# Altium schematic symbol library AAAA_Library.SchLib: 148 symbols
Pins are listed as number, name and electrical type; pins without a type are passive.

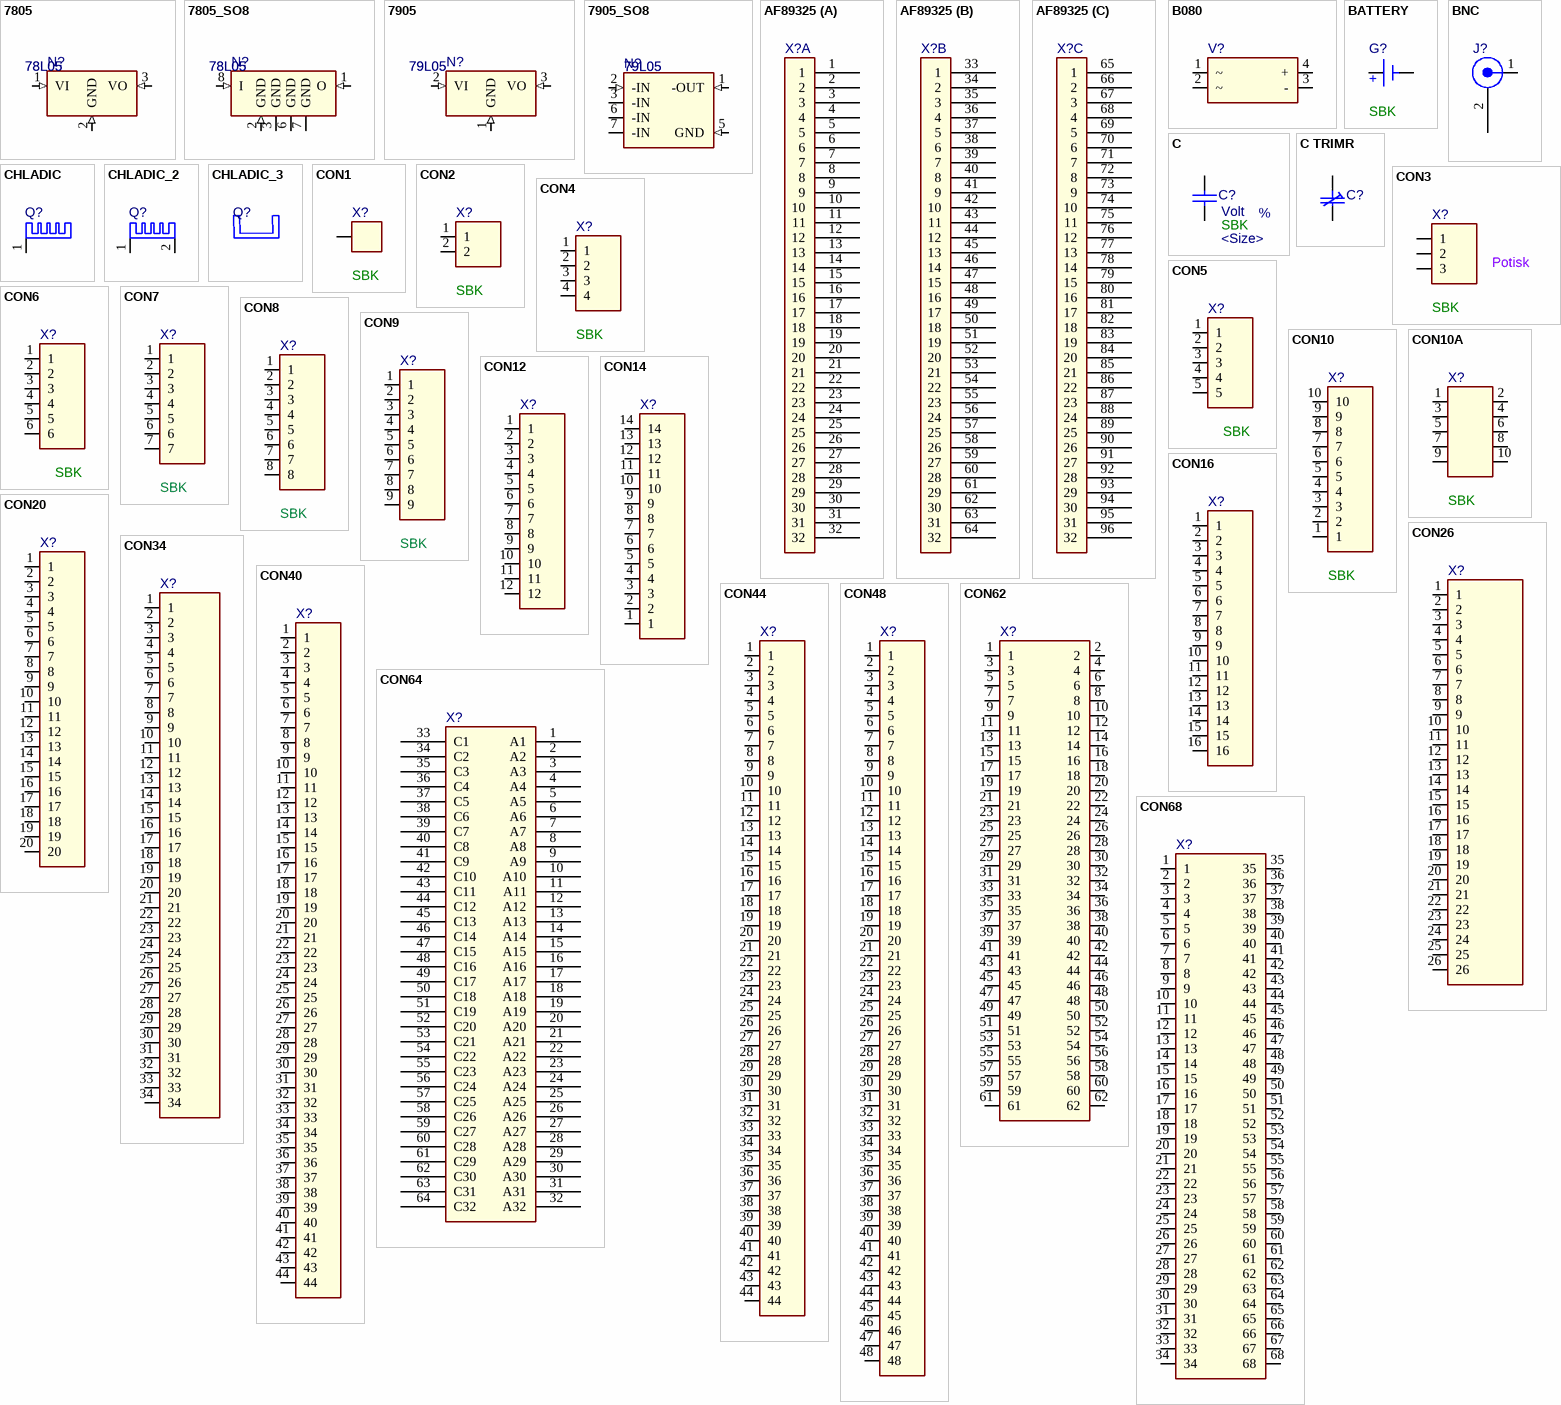
[diagram p0: symbols 7805 to CON68]

## 7805
designator N?, comment 78L05
Value: 78L05
footprint TO92A
pins: 1 VI (in), 2 GND (in), 3 VO (in)

## 7805_SO8
designator N?, comment 78L05
Value: 78L05
footprint ZSO8
pins: 1 O (in), 2 GND (in), 3 GND, 6 GND, 7 GND, 8 I (in)

## 7905
designator N?, comment 79L05
Value: 79L05
footprint TO92S
pins: 1 GND (in), 2 VI (in), 3 VO (in)

## 7905_SO8
designator N?, comment 79L05
Value: 79L05
footprint ZSO8
pins: 1 -OUT (in), 2 -IN (in), 3 -IN, 5 GND (in), 6 -IN, 7 -IN

## AF89325
designator X?
footprint AF89325
part A pins: 1, 2, 3, 4, 5, 6, 7, 8, 9, 10, 11, 12, 13, 14, 15, 16, 17, 18, 19, 20, 21, 22, 23, 24, 25, 26, 27, 28, 29, 30, 31, 32
part B pins: 33 1, 34 2, 35 3, 36 4, 37 5, 38 6, 39 7, 40 8, 41 9, 42 10, 43 11, 44 12, 45 13, 46 14, 47 15, 48 16, 49 17, 50 18, 51 19, 52 20, 53 21, 54 22, 55 23, 56 24, 57 25, 58 26, 59 27, 60 28, 61 29, 62 30, 63 31, 64 32
part C pins: 65 1, 66 2, 67 3, 68 4, 69 5, 70 6, 71 7, 72 8, 73 9, 74 10, 75 11, 76 12, 77 13, 78 14, 79 15, 80 16, 81 17, 82 18, 83 19, 84 20, 85 21, 86 22, 87 23, 88 24, 89 25, 90 26, 91 27, 92 28, 93 29, 94 30, 95 31, 96 32

## B080
designator V?
pins: 1 ~, 2 ~, 3 -, 4 +

## BATTERY
designator G?  MEGA_ID: SBK
pins: 1 MINUS, 2 PLUS
text: +

## BNC
designator J?
pins: 1 CENTER, 2 SHIELD

## C
designator C?  Size: <Size>  MEgA_ID: SBK  Tolerance: %  Voltage: Volt
footprint Z0805
pins: 1, 2

## C TRIMR
designator C?
pins: 1, 2

## CHLADIC
designator Q?
pins: 1

## CHLADIC_2
designator Q?
pins: 1, 2

## CHLADIC_3
designator Q?
MEGA_ID: *

## CON1
designator X?  MEGA_ID: SBK
Potisk
pins: 1

## CON2
designator X?  MEGA_ID: SBK
Potisk
pins: 1, 2

## CON3
designator X?  Desription: Potisk  MEGA_ID: SBK
pins: 1, 2, 3

## CON4
designator X?  MEGA_ID: SBK
Potisk
pins: 1, 2, 3, 4

## CON5
designator X?  MEGA_ID: SBK
Potisk
pins: 1, 2, 3, 4, 5

## CON6
designator X?  MEGA_ID: SBK
Potisk
pins: 1, 2, 3, 4, 5, 6

## CON7
designator X?  MEGA_ID: SBK
Potisk
pins: 1, 2, 3, 4, 5, 6, 7

## CON8
designator X?  MEGA_ID: SBK
Potisk
pins: 1, 2, 3, 4, 5, 6, 7, 8

## CON9
designator X?  MEGA_ID: SBK
Potisk
pins: 1, 2, 3, 4, 5, 6, 7, 8, 9

## CON10
designator X?  MEGA_ID: SBK
Potisk
pins: 1, 2, 3, 4, 5, 6, 7, 8, 9, 10

## CON10A
designator X?  MEGA_ID: SBK
Potisk
pins: 1, 2, 3, 4, 5, 6, 7, 8, 9, 10

## CON12
designator X?
pins: 1, 2, 3, 4, 5, 6, 7, 8, 9, 10, 11, 12

## CON14
designator X?
pins: 1, 2, 3, 4, 5, 6, 7, 8, 9, 10, 11, 12, 13, 14

## CON16
designator X?
pins: 1, 2, 3, 4, 5, 6, 7, 8, 9, 10, 11, 12, 13, 14, 15, 16

## CON20
designator X?
pins: 1, 2, 3, 4, 5, 6, 7, 8, 9, 10, 11, 12, 13, 14, 15, 16, 17, 18, 19, 20

## CON26
designator X?
pins: 1, 2, 3, 4, 5, 6, 7, 8, 9, 10, 11, 12, 13, 14, 15, 16, 17, 18, 19, 20, 21, 22, 23, 24, 25, 26

## CON34
designator X?
pins: 1, 2, 3, 4, 5, 6, 7, 8, 9, 10, 11, 12, 13, 14, 15, 16, 17, 18, 19, 20, 21, 22, 23, 24, 25, 26, 27, 28, 29, 30, 31, 32, 33, 34

## CON40
designator X?
pins: 1, 2, 3, 4, 5, 6, 7, 8, 9, 10, 11, 12, 13, 14, 15, 16, 17, 18, 19, 20, 21, 22, 23, 24, 25, 26, 27, 28, 29, 30, 31, 32, 33, 34, 35, 36, 37, 38, 39, 40, 41, 42, 43, 44

## CON44
designator X?
pins: 1, 2, 3, 4, 5, 6, 7, 8, 9, 10, 11, 12, 13, 14, 15, 16, 17, 18, 19, 20, 21, 22, 23, 24, 25, 26, 27, 28, 29, 30, 31, 32, 33, 34, 35, 36, 37, 38, 39, 40, 41, 42, 43, 44

## CON48
designator X?
pins: 1, 2, 3, 4, 5, 6, 7, 8, 9, 10, 11, 12, 13, 14, 15, 16, 17, 18, 19, 20, 21, 22, 23, 24, 25, 26, 27, 28, 29, 30, 31, 32, 33, 34, 35, 36, 37, 38, 39, 40, 41, 42, 43, 44, 45, 46, 47, 48

## CON62
designator X?
pins: 1, 2, 3, 4, 5, 6, 7, 8, 9, 10, 11, 12, 13, 14, 15, 16, 17, 18, 19, 20, 21, 22, 23, 24, 25, 26, 27, 28, 29, 30, 31, 32, 33, 34, 35, 36, 37, 38, 39, 40, 41, 42, 43, 44, 45, 46, 47, 48, 49, 50, 51, 52, 53, 54, 55, 56, 57, 58, 59, 60, 61, 62

## CON64
designator X?
footprint AF89325R
pins: 1 A1, 2 A2, 3 A3, 4 A4, 5 A5, 6 A6, 7 A7, 8 A8, 9 A9, 10 A10, 11 A11, 12 A12, 13 A13, 14 A14, 15 A15, 16 A16, 17 A17, 18 A18, 19 A19, 20 A20, 21 A21, 22 A22, 23 A23, 24 A24, 25 A25, 26 A26, 27 A27, 28 A28, 29 A29, 30 A30, 31 A31, 32 A32, 33 C1, 34 C2, 35 C3, 36 C4, 37 C5, 38 C6, 39 C7, 40 C8, 41 C9, 42 C10, 43 C11, 44 C12, 45 C13, 46 C14, 47 C15, 48 C16, 49 C17, 50 C18, 51 C19, 52 C20, 53 C21, 54 C22, 55 C23, 56 C24, 57 C25, 58 C26, 59 C27, 60 C28, 61 C29, 62 C30, 63 C31, 64 C32

## CON68
designator X?
pins: 1, 2, 3, 4, 5, 6, 7, 8, 9, 10, 11, 12, 13, 14, 15, 16, 17, 18, 19, 20, 21, 22, 23, 24, 25, 26, 27, 28, 29, 30, 31, 32, 33, 34, 35, 36, 37, 38, 39, 40, 41, 42, 43, 44, 45, 46, 47, 48, 49, 50, 51, 52, 53, 54, 55, 56, 57, 58, 59, 60, 61, 62, 63, 64, 65, 66, 67, 68

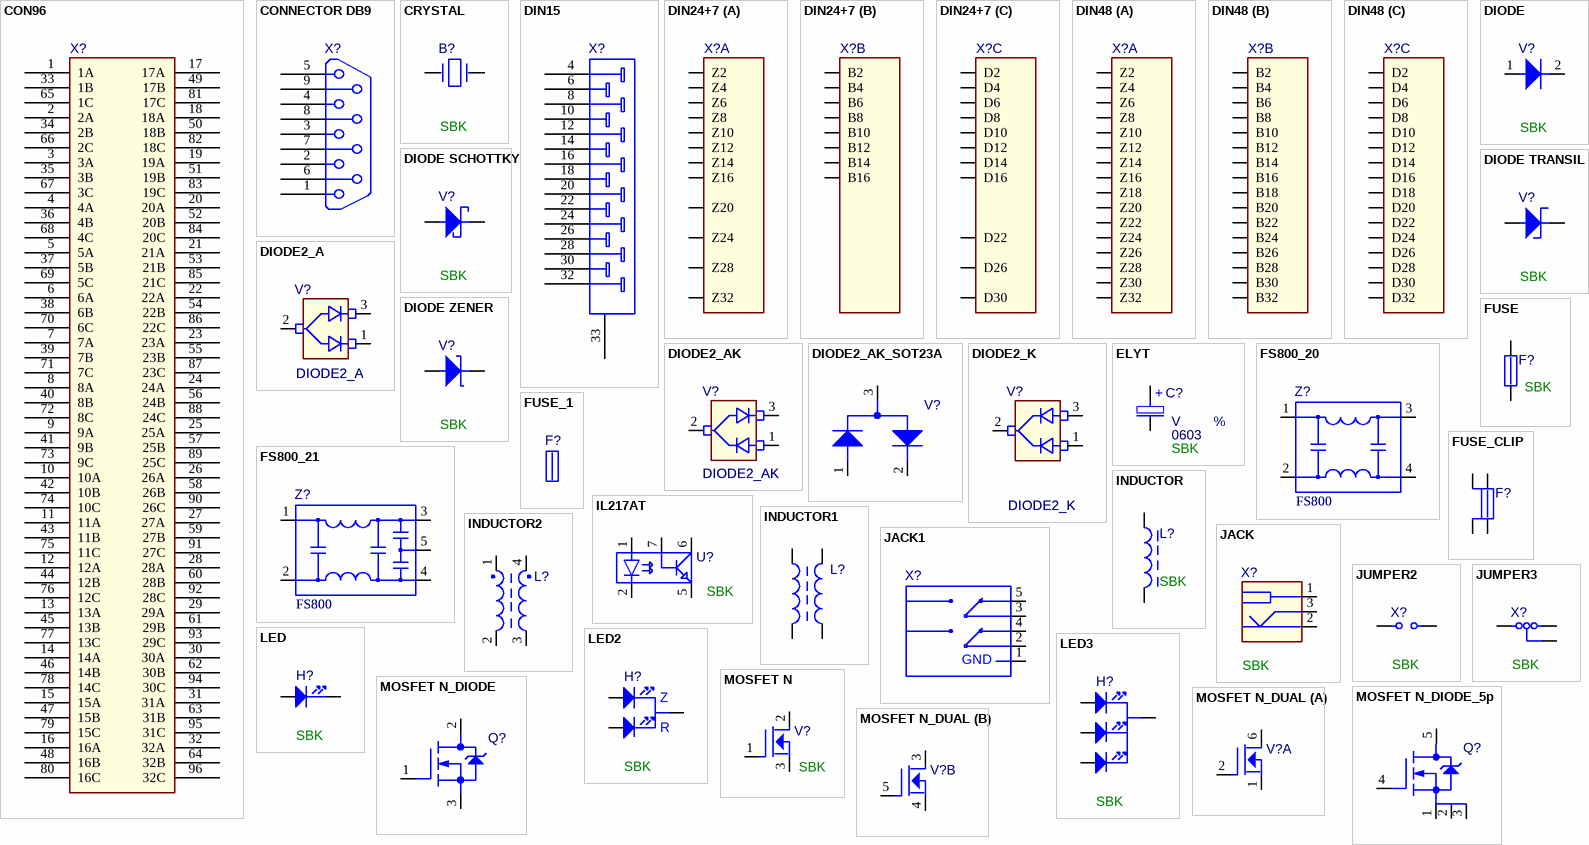
[diagram p1: symbols CON96 to MOSFET N_DUAL]

## CON96
designator X?
footprint AF89325
pins: 1 1A, 2 2A, 3 3A, 4 4A, 5 5A, 6 6A, 7 7A, 8 8A, 9 9A, 10 10A, 11 11A, 12 12A, 13 13A, 14 14A, 15 15A, 16 16A, 17 17A, 18 18A, 19 19A, 20 20A, 21 21A, 22 22A, 23 23A, 24 24A, 25 25A, 26 26A, 27 27A, 28 28A, 29 29A, 30 30A, 31 31A, 32 32A, 33 1B, 34 2B, 35 3B, 36 4B, 37 5B, 38 6B, 39 7B, 40 8B, 41 9B, 42 10B, 43 11B, 44 12B, 45 13B, 46 14B, 47 15B, 48 16B, 49 17B, 50 18B, 51 19B, 52 20B, 53 21B, 54 22B, 55 23B, 56 24B, 57 25B, 58 26B, 59 27B, 60 28B, 61 29B, 62 30B, 63 31B, 64 32B, 65 1C, 66 2C, 67 3C, 68 4C, 69 5C, 70 6C, 71 7C, 72 8C, 73 9C, 74 10C, 75 11C, 76 12C, 77 13C, 78 14C, 79 15C, 80 16C, 81 17C, 82 18C, 83 19C, 84 20C, 85 21C, 86 22C, 87 23C, 88 24C, 89 25C, 90 26C, 91 27C, 92 28C, 93 29C, 94 30C, 95 31C, 96 32C

## CONNECTOR DB9
designator X?
pins: 1, 2, 3, 4, 5, 6, 7, 8, 9

## CRYSTAL
designator B?  MEGA_ID: SBK
pins: 1, 2

## DIN15
designator X?
footprint HO15M
pins: 4, 6, 8, 10, 12, 14, 16, 18 17, 20, 22, 24, 26, 28, 30, 32, 33

## DIN24+7
designator X?
footprint DIN24
part A pins: 102 Z2, 104 Z4, 106 Z6, 108 Z8, 110 Z10, 112 Z12, 114 Z14, 116 Z16, 120 Z20, 124 Z24, 128 Z28, 132 Z32
part B pins: 202 B2, 204 B4, 206 B6, 208 B8, 210 B10, 212 B12, 214 B14, 216 B16
part C pins: 302 D2, 304 D4, 306 D6, 308 D8, 310 D10, 312 D12, 314 D14, 316 D16, 322 D22, 326 D26, 330 D30

## DIN48
designator X?
footprint DIN48
part A pins: 102 Z2, 104 Z4, 106 Z6, 108 Z8, 110 Z10, 112 Z12, 114 Z14, 116 Z16, 118 Z18, 120 Z20, 122 Z22, 124 Z24, 126 Z26, 128 Z28, 130 Z30, 132 Z32
part B pins: 202 B2, 204 B4, 206 B6, 208 B8, 210 B10, 212 B12, 214 B14, 216 B16, 218 B18, 220 B20, 222 B22, 224 B24, 226 B26, 228 B28, 230 B30, 232 B32
part C pins: 302 D2, 304 D4, 306 D6, 308 D8, 310 D10, 312 D12, 314 D14, 316 D16, 318 D18, 320 D20, 322 D22, 324 D24, 326 D26, 328 D28, 330 D30, 332 D32

## DIODE
designator V?  MEGA_ID: SBK
pins: 1 A, 2 K

## DIODE2_A
designator V?
Value: DIODE2_A
footprint SOT23
pins: 1 K2, 2 A, 3 K1

## DIODE2_AK
designator V?
Value: DIODE2_AK
footprint SOT23
pins: 1 A2, 2 A1K2, 3 K1

## DIODE2_AK_SOT23A
designator V?
pins: 1 A, 2 K, 3 KA

## DIODE2_K
designator V?
Value: DIODE2_K
footprint SOT23
pins: 1 A2, 2 K, 3 A1

## DIODE SCHOTTKY
designator V?  MEGA_ID: SBK
pins: 1 A, 2 K

## DIODE TRANSIL
designator V?  MEGA_ID: SBK
pins: 1 A, 2 K

## DIODE ZENER
designator V?  MEGA_ID: SBK
pins: 1 A, 2 K

## ELYT
designator C?  Voltage: V  Tolerance: %  Size: 0603  MEgA_ID: SBK
pins: 1 PLUS, 2 MINUS
text: +

## FS800_20
designator Z?, comment FS800
Value: FS800
footprint FS800_20
pins: 1, 2, 3, 4

## FS800_21
designator Z?, comment FS800
Value: FS800
footprint FS800_21
pins: 1, 2, 3, 4, 5

## FUSE
designator F?  MEGA_ID: SBK
pins: 1, 2

## FUSE_1
designator F?

## FUSE_CLIP
designator F?
pins: 1, 2, 11, 22

## IL217AT
designator U?  MEGA_ID: SBK
pins: 1, 2, 5 4, 6 5, 7 6

## INDUCTOR
designator L?  MEGA_ID: SBK
pins: 1, 2

## INDUCTOR1
designator L?
pins: 1, 2, 3, 4

## INDUCTOR2
designator L?
pins: 1, 2, 3, 4

## JACK
designator X?  MEGA_ID: SBK
footprint SCD016
pins: 1, 2, 3

## JACK1
designator X?
pins: 1 GND, 2, 3, 4, 5

## JUMPER2
designator X?  MEGA_ID: SBK
Potisk
footprint AMP02
pins: 1, 2

## JUMPER3
designator X?  MEGA_ID: SBK
Potisk
footprint AMP03
pins: 1, 2, 3

## LED
designator H?  MEGA_ID: SBK
Potisk
pins: 1 A, 2 K

## LED2
designator H?  MEGA_ID: SBK
Potisk
pins: 1 A1, 2 A2, 3 K
text: Z; R

## LED3
designator H?  MEGA_ID: SBK
Potisk
pins: 1 A1, 2 K, 3 A2, 4 A3

## MOSFET N
designator V?  MEGA_ID: SBK
pins: 1 G, 2 D, 3 S

## MOSFET N_DIODE
designator Q?
pins: 1 G, 2 D, 3 S

## MOSFET N_DIODE_5p
designator Q?
pins: 1 G, 2 D, 3 S, 4 S, 5 S

## MOSFET N_DUAL
designator V?
part A pins: 1 S, 2 G, 6 D
part B pins: 3 D, 4 S, 5 G

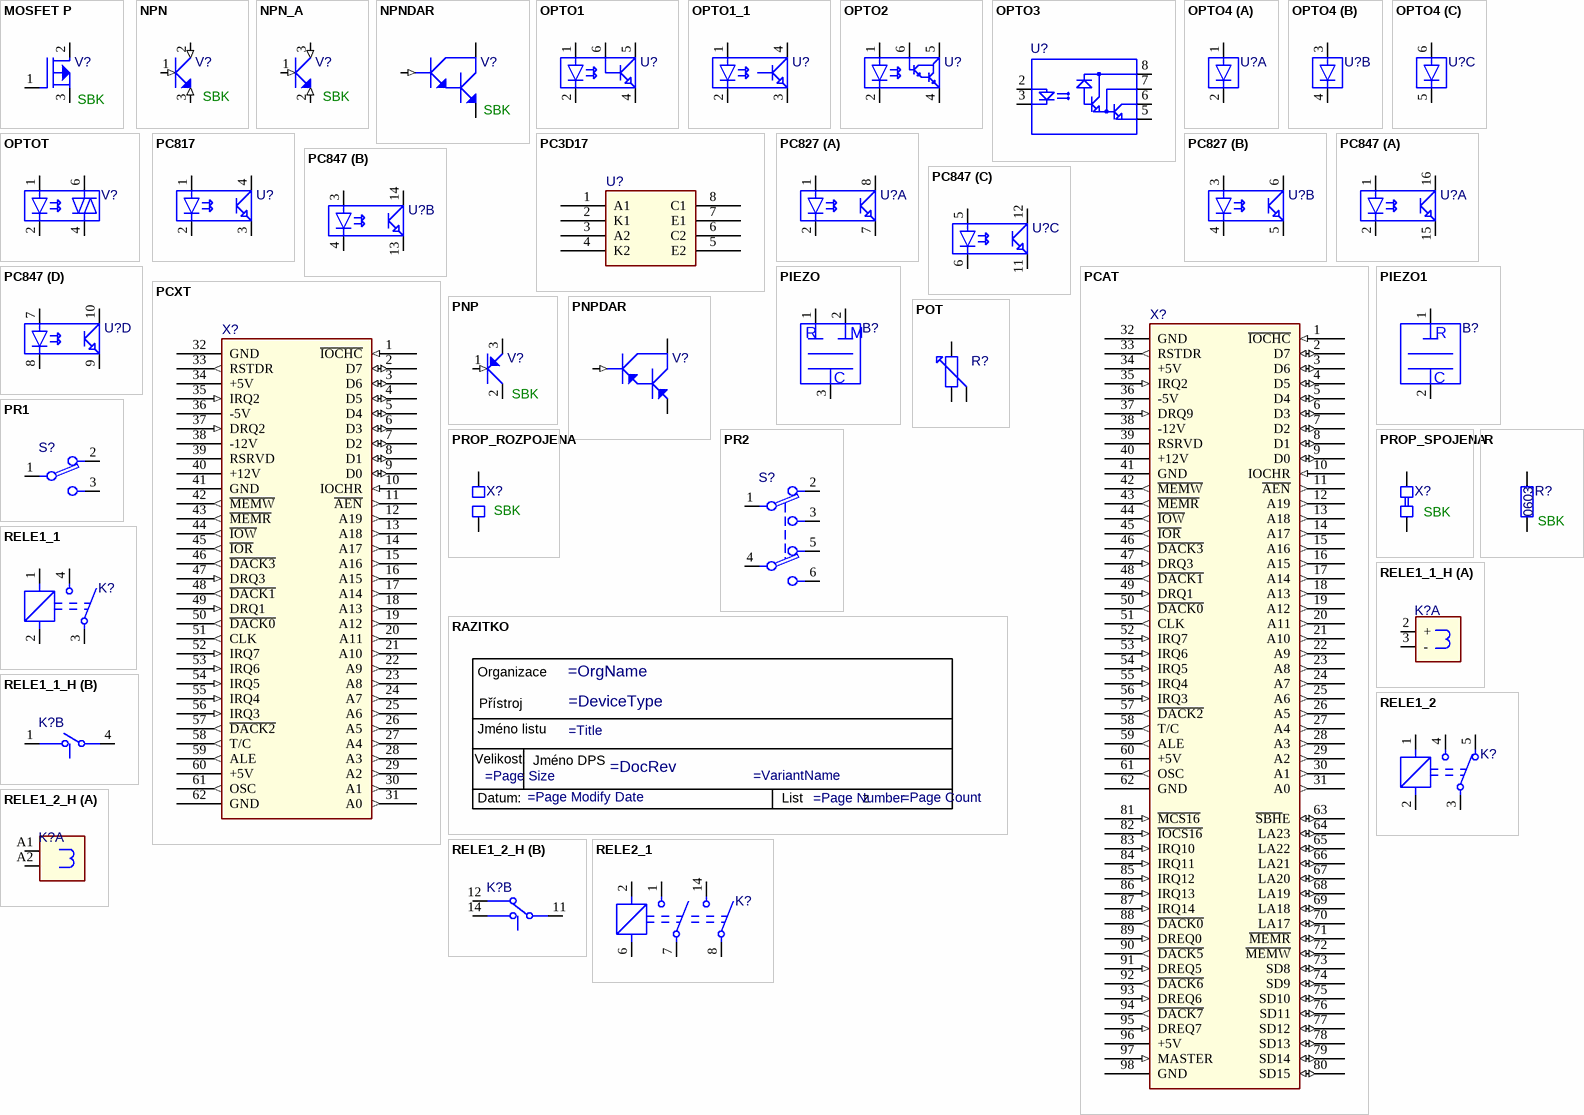
[diagram p2: symbols MOSFET P to RELE2_1]

## MOSFET P
designator V?  MEGA_ID: SBK
pins: 1 G, 2 D, 3 S

## NPN
designator V?  MEGA_ID: SBK
pins: 1 B (in), 2 C (in), 3 E (in)

## NPN_A
designator V?  MEGA_ID: SBK
footprint ZSOT23
pins: 1 B (in), 2 E (in), 3 C (in)

## NPNDAR
designator V?  MEGA_ID: SBK
pins: 1 B (in), 2 C, 3 E

## OPTO1
designator U?
pins: 1, 2, 4, 5, 6

## OPTO1_1
designator U?
pins: 1, 2, 3, 4

## OPTO2
designator U?
pins: 1, 2, 4, 5, 6

## OPTO3
designator U?
pins: 2, 3, 5, 6, 7, 8

## OPTO4
designator U?
footprint DIL8
part A pins: 1 K, 2 A
part B pins: 3 K, 4 A
part C pins: 5 A, 6 K

## OPTOT
designator V?
pins: 1, 2, 4, 6

## PC3D17
designator U?
footprint ZPC3D17
pins: 1 A1, 2 K1, 3 A2, 4 K2, 5 E2, 6 C2, 7 E1, 8 C1

## PC817
designator U?
pins: 1, 2, 3, 4

## PC827
designator U?
part A pins: 1, 2, 7 3, 8 16
part B pins: 3 1, 4 2, 5 3, 6 16

## PC847
designator U?
part A pins: 1, 2, 15 3, 16
part B pins: 3 1, 4 2, 13 3, 14 16
part C pins: 5 1, 6 2, 11 3, 12 16
part D pins: 7 1, 8 2, 9 3, 10 16

## PCAT
designator X?
footprint PCAT
pins: 1 ~{IOCHC} (in), 2 D7 (io), 3 D6 (io), 4 D5 (io), 5 D4 (io), 6 D3 (io), 7 D2 (io), 8 D1 (io), 9 D0 (io), 10 IOCHR (in), 11 ~{AEN} (out), 12 A19 (out), 13 A18 (out), 14 A17 (out), 15 A16 (out), 16 A15 (out), 17 A14 (out), 18 A13 (out), 19 A12 (out), 20 A11 (out), 21 A10 (out), 22 A9 (out), 23 A8 (out), 24 A7 (out), 25 A6 (out), 26 A5 (out), 27 A4 (out), 28 A3 (out), 29 A2 (out), 30 A1 (out), 31 A0 (out), 32 GND, 33 RSTDR (out), 34 +5V, 35 IRQ2 (in), 36 -5V, 37 DRQ9 (in), 38 -12V, 39 RSRVD, 40 +12V, 41 GND, 42 ~{MEMW} (out), 43 ~{MEMR} (out), 44 ~{IOW} (out), 45 ~{IOR} (out), 46 ~{DACK3} (out), 47 DRQ3 (in), 48 ~{DACK1} (out), 49 DRQ1 (in), 50 ~{DACK0} (out), 51 CLK (out), 52 IRQ7 (in), 53 IRQ6 (in), 54 IRQ5 (in), 55 IRQ4 (in), 56 IRQ3 (in), 57 ~{DACK2} (out), 58 T/C (out), 59 ALE (out), 60 +5V, 61 OSC (out), 62 GND, 63 ~{SBH}E (io), 64 LA23 (io), 65 LA22 (io), 66 LA21 (io), 67 LA20 (io), 68 LA19 (io), 69 LA18 (io), 70 LA17 (io), 71 ~{MEMR} (io), 72 ~{MEMW} (io), 73 SD8 (io), 74 SD9 (io), 75 SD10 (io), 76 SD11 (io), 77 SD12 (io), 78 SD13 (io), 79 SD14 (io), 80 SD15 (io), 81 ~{MCS16} (in), 82 ~{IOCS16} (in), 83 IRQ10 (in), 84 IRQ11 (in), 85 IRQ12 (in), 86 IRQ13 (in), 87 IRQ14 (in), 88 ~{DACK0} (out), 89 DREQ0 (in), 90 ~{DACK5} (out), 91 DREQ5 (in), 92 ~{DACK6} (out), 93 DREQ6 (in), 94 ~{DACK7} (out), 95 DREQ7 (in), 96 +5V, 97 MASTER (in), 98 GND

## PCXT
designator X?
footprint PCXT
pins: 1 ~{IOCHC} (in), 2 D7 (io), 3 D6 (io), 4 D5 (io), 5 D4 (io), 6 D3 (io), 7 D2 (io), 8 D1 (io), 9 D0 (io), 10 IOCHR (in), 11 ~{AEN} (out), 12 A19 (out), 13 A18 (out), 14 A17 (out), 15 A16 (out), 16 A15 (out), 17 A14 (out), 18 A13 (out), 19 A12 (out), 20 A11 (out), 21 A10 (out), 22 A9 (out), 23 A8 (out), 24 A7 (out), 25 A6 (out), 26 A5 (out), 27 A4 (out), 28 A3 (out), 29 A2 (out), 30 A1 (out), 31 A0 (out), 32 GND, 33 RSTDR (out), 34 +5V, 35 IRQ2 (in), 36 -5V, 37 DRQ2 (in), 38 -12V, 39 RSRVD, 40 +12V, 41 GND, 42 ~{MEMW} (out), 43 ~{MEMR} (out), 44 ~{IOW} (out), 45 ~{IOR} (out), 46 ~{DACK3} (out), 47 DRQ3 (in), 48 ~{DACK1} (out), 49 DRQ1 (in), 50 ~{DACK0} (out), 51 CLK (out), 52 IRQ7 (in), 53 IRQ6 (in), 54 IRQ5 (in), 55 IRQ4 (in), 56 IRQ3 (in), 57 ~{DACK2} (out), 58 T/C (out), 59 ALE (out), 60 +5V, 61 OSC (out), 62 GND

## PIEZO
designator B?
pins: 1 R, 2 M, 3 C

## PIEZO1
designator B?
pins: 1 R, 2 C

## PNP
designator V?  MEGA_ID: SBK
pins: 1 B (in), 2 C, 3 E

## PNPDAR
designator V?
pins: 1 B (in), 2 C, 3 E

## POT
designator R?
pins: 1, 2, 3

## PR1
designator S?
pins: 1, 2, 3

## PR2
designator S?
pins: 1, 2, 3, 4, 5, 6

## PROP_ROZPOJENA
designator X?  MEGA_ID: SBK
Potisk
footprint PROP_010_008-02
pins: 1, 2

## PROP_SPOJENA
designator X?  MEGA_ID: SBK
Potisk
footprint PROP_010_008-03
pins: 1, 2

## R
designator R?  Size: 0603  MEgA_ID: SBK
footprint Z0805
pins: 1, 2

## RAZITKO
designator *  (value not drawn)  (graphical)
text: Organizace; Přístroj; Jméno listu; Velikost; Jméno DPS; Datum:; List; z

## RELE1_1
designator K?
pins: 1, 2, 3, 4

## RELE1_1_H
designator K?
part A pins: 2 +, 3 -
part B pins: 1, 4

## RELE1_2
designator K?
pins: 1, 2, 3, 4, 5

## RELE1_2_H
designator K?
part A pins: A1 +, A2 -
part B pins: 11, 12, 14

## RELE2_1
designator K?
pins: 1, 2, 6, 7, 8, 14

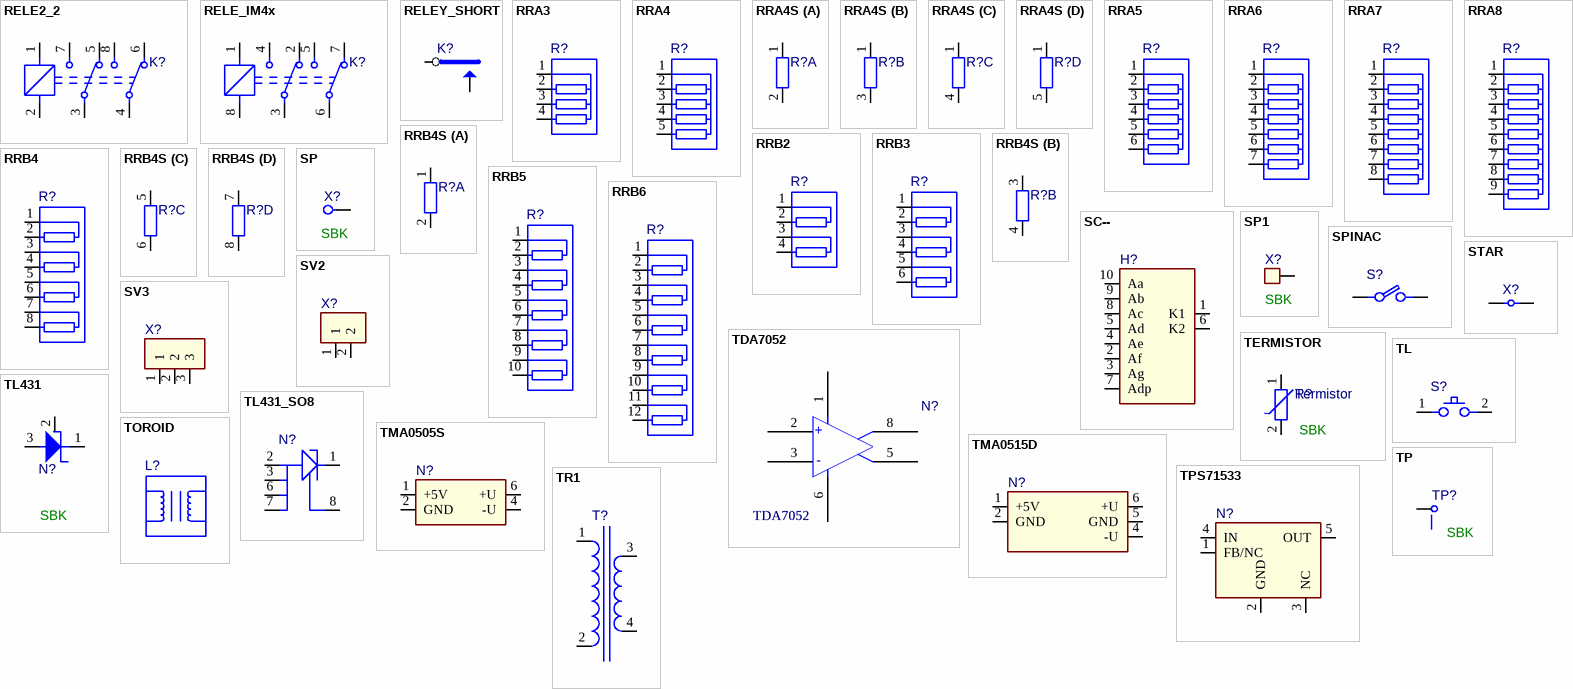
[diagram p3: symbols RELE2_2 to TR1]

## RELE2_2
designator K?
pins: 1, 2, 3, 4, 5, 6, 7, 8

## RELE_IM4x
designator K?
pins: 1, 2, 3, 4, 5, 6, 7, 8

## RELEY_SHORT
designator K?
pins: 1 K1, 2 K2

## RRA3
designator R?
pins: 1 R1, 2 R2, 3 R3, 4 R4

## RRA4
designator R?
pins: 1 R1, 2 R2, 3 R3, 4 R4, 5 R5

## RRA4S
designator R?
part A pins: 1, 2
part B pins: 1, 3 2
part C pins: 1, 4 2
part D pins: 1, 5 2

## RRA5
designator R?
pins: 1 R1, 2 R2, 3 R3, 4 R4, 5 R5, 6 R6

## RRA6
designator R?
pins: 1 R1, 2 R2, 3 R3, 4 R4, 5 R5, 6 R6, 7 R7

## RRA7
designator R?
pins: 1 R1, 2 R2, 3 R3, 4 R4, 5 R5, 6 R6, 7 R7, 8 R8

## RRA8
designator R?
pins: 1 R1, 2 R2, 3 R3, 4 R4, 5 R5, 6 R6, 7 R7, 8 R8, 9

## RRB2
designator R?
pins: 1 R1, 2 R2, 3 R3, 4 R4

## RRB3
designator R?
pins: 1 R1, 2 R2, 3 R3, 4 R4, 5 R5, 6 R6

## RRB4
designator R?
pins: 1 R1, 2 R2, 3 R3, 4 R4, 5 R5, 6 R6, 7 R7, 8 R8

## RRB4S
designator R?
part A pins: 1, 2
part B pins: 3 1, 4 2
part C pins: 5 1, 6 2
part D pins: 7 1, 8 2

## RRB5
designator R?
pins: 1 R1, 2 R2, 3 R3, 4 R4, 5 R5, 6 R6, 7 R7, 8 R8, 9, 10

## RRB6
designator R?
pins: 1 R1, 2 R2, 3 R3, 4 R4, 5 R5, 6 R6, 7 R7, 8 R8, 9, 10, 11, 12

## SC--
designator H?
pins: 1 K1, 2 Af, 3 Ag, 4 Ae, 5 Ad, 6 K2, 7 Adp, 8 Ac, 9 Ab, 10 Aa

## SP
designator X?  MEGA_ID: SBK
Potisk
pins: 1

## SP1
designator X?  MEGA_ID: SBK
Potisk
pins: 1

## SPINAC
designator S?
pins: 1, 2

## STAR
designator X?
footprint JMP2_010_010_02_C
pins: 1, 2

## SV2
designator X?
pins: 1, 2

## SV3
designator X?
pins: 1, 2, 3

## TDA7052
designator N?
Value: TDA7052
footprint DIL8
pins: 1 +VCC, 2 +IN, 3 GNDin, 5 OUT1, 6 GND, 8 OUT2
text: +; -

## TERMISTOR
designator R?, comment Termistor  MEGA_ID: SBK
Value: Termistor
pins: 1, 2

## TL
designator S?
Potisk
pins: 1, 2

## TL431
designator N?  MEGA_ID: SBK
footprint ZSOT23A
pins: 1 C, 2 R, 3 A

## TL431_SO8
designator N?
footprint ZSO8
pins: 1 C, 2 A, 3 A, 6 A, 7 A, 8 VREF

## TMA0505S
designator N?
pins: 1 +5V, 2 GND, 4 -U, 6 +U

## TMA0515D
designator N?
pins: 1 +5V, 2 GND, 4 -U, 5 GND, 6 +U

## TOROID
designator L?

## TP
designator TP?  MEGA_ID: SBK
Potisk
footprint M08
pins: 1

## TPS71533
designator N?
footprint SOT23_5
pins: 1 FB/NC, 2 GND, 3 NC, 4 IN, 5 OUT

## TR1
designator T?
pins: 1, 2, 3, 4 6

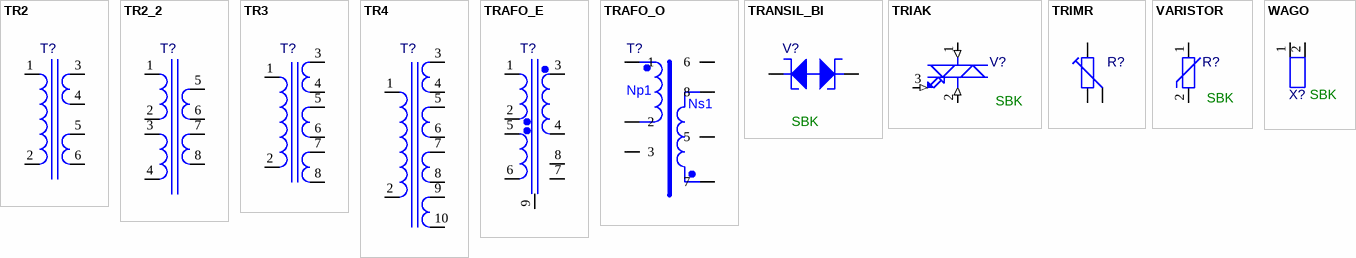
[diagram p4: symbols TR2 to WAGO]

## TR2
designator T?
pins: 1, 2, 3, 4, 5, 6

## TR2_2
designator T?
pins: 1, 2, 3, 4, 5, 6, 7, 8

## TR3
designator T?
pins: 1, 2, 3, 4, 5, 6, 7, 8

## TR4
designator T?
pins: 1, 2, 3, 4, 5, 6, 7, 8, 9, 10

## TRAFO_E
designator T?
pins: 1, 2, 3, 4, 5, 6, 7, 8, 9

## TRAFO_O
designator T?
pins: 1, 2, 3, 5, 6, 7, 8
text: Np1; Ns1

## TRANSIL_BI
designator V?  MEGA_ID: SBK
pins: 1 A, 2 K

## TRIAK
designator V?  MEGA_ID: SBK
pins: 1 (in), 2 (in), 3 (in)

## TRIMR
designator R?
pins: 1, 2, 3

## VARISTOR
designator R?  MEGA_ID: SBK
pins: 1, 2

## WAGO
designator X?  MEGA_ID: SBK
pins: 1, 2